# EAGLE library part LM324 (library PP_AnalogIC)
Manufacturer Part #: LM324 Manufacturer: Texas Instruments Description: Operational Amplifiers - Op Amps Quad General-Purpose Op Amp
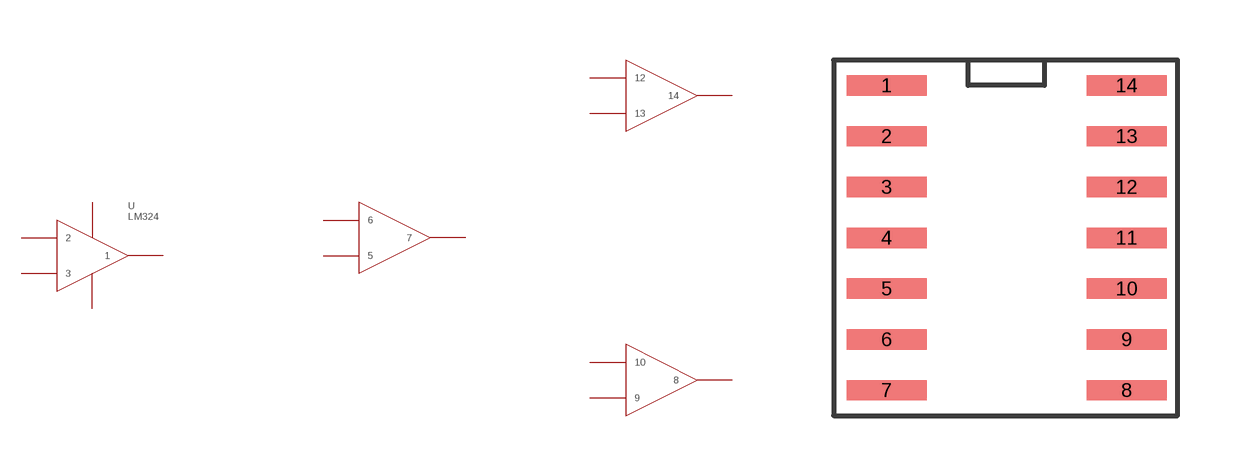
[diagram p0: symbol with the pads of LM324_SOP-14; footprint LM324_SOP-14]

Designator prefix U

## LM324NSR (POPULATE: 1)  [LM324_SOP-14]
1  1
2  2
3  3
4  4
5  5
6  6
7  7
8  8
9  9
10  10
11  11
12  12
13  13
14  14

## Footprint LM324_SOP-14 (pad centres in mm)
smd 2 x 0.51: 1 -2.675,3.81; 2 -2.675,2.54; 3 -2.675,1.27; 4 -2.675,0; 5 -2.675,-1.27; 6 -2.675,-2.54; 7 -2.675,-3.81; 8 3.325,-3.81; 9 3.325,-2.54; 10 3.325,-1.27; 11 3.325,0; 12 3.325,1.27; 13 3.325,2.54; 14 3.325,3.81